# Altium footprint library SOP4.PcbLib: 1 footprints
Each footprint in its own frame and in the unit in brackets; x right, y up, seen from the top. Pads: shape width x height; smd on the part's side, far side on the other; paste and mask are expansions set on the pad; w line width, h text height; cw(c..) or ccw(c..) is an arc to the next point about the centre after c.
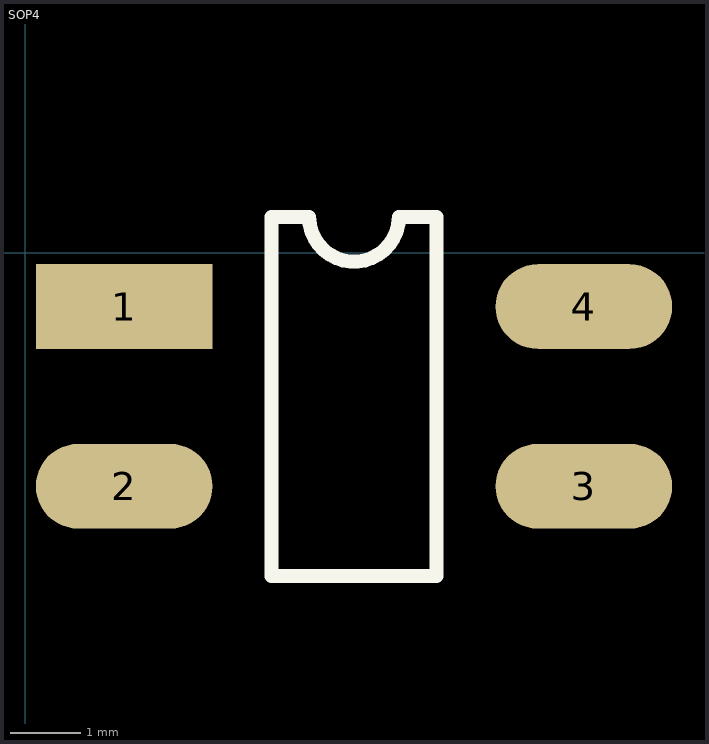
[diagram p0: the footprint, top view; thin cyan lines are the x and y axes]

## SOP4 [mm]
pads (4):
  rect 2.5x1.2 smd: 1(1.397,-0.762)
  oval 2.5x1.2 smd: 2(1.397,-3.302) 3(7.897,-3.302) 4(7.897,-0.762)
Top Overlay:
  lines w0.2: 3.482,-4.572 3.482,0.508 4.012,0.508 ccw(c4.647,0.508) 5.282,0.508 5.812,0.508 5.812,-4.572 3.482,-4.572